# Altium schematic symbol library Schematics_Semiconductors.SchLib: 6 symbols
Pins are listed as number, name and electrical type; pins without a type are passive.

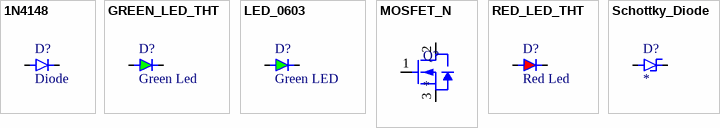
[diagram p0: symbols 1N4148 to Schottky_Diode]

## 1N4148
designator D?, comment Diode
THT; 100V; 0,2A; Ifsm: 1A; DO35; Ufmax: 1V; 4ns; ComponentLink1Description: TME; ComponentLink1URL: https://www.tme.eu/cz/details/1n4148-fai/univerzalni-diody-tht/onsemi/1n4148/
footprint 1N4148
pins: 1, 2

## GREEN_LED_THT
designator D?, comment Green Led
Green Led THT
footprint GREEN_LED
pins: 1, 2

## LED_0603
designator D?, comment Green LED
LED SMD 0603
footprint LED_0603
pins: 1, 2

## MOSFET_N
designator Q?
footprint TO-220-3
pins: 1 G, 2 D, 3 S

## RED_LED_THT
designator D?, comment Red Led
Red Led THT
footprint RED_LED
pins: 1, 2

## Schottky_Diode
designator D?
footprint 1N4001W-T
footprint SOD-323
pins: 1, 2